# EAGLE library part LT3484-2 (library PowerProducts)
LT-Spice library generated with : ltspice.ulp from: E:/Programme/LTC/LTspiceIV/lib/sym/PowerProducts/LT3485-0*.asy at 05.10.2012 11:19:20
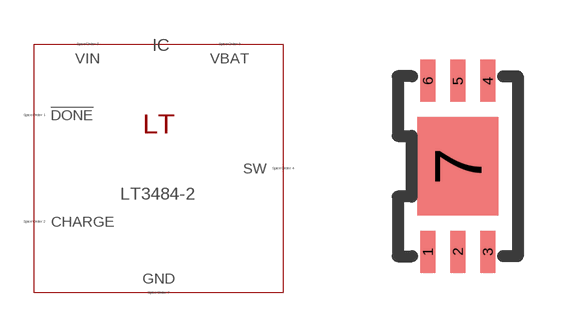
[diagram p51: symbol with the pads of DFN6(DCB); footprint DFN6(DCB)]

Designator prefix IC

## LT3484-2 (SPICEMODEL: LT1762.lib; SPICEPREFIX: X; VALUE2: LT1762)  [DFN6(DCB)]
1  !DONE  pas
2  CHARGE  pas
3  VIN  pas
4  SW  pas
5  SW  pas
6  VBAT  pas
7  GND  pas

## Footprint DFN6(DCB) (pad centres in mm)
Package generated from: DFN6(DCB).asc (!PADS-POWERPCB-V5.0-BASIC! DESIGN DATABASE ASCII FILE 1.0) with :import-pads-powerpcb-v5.ulp Version 1.0.1 at 04.10.2012 14:11:17
smd 0.375 x 1.05: 1 -0.75,-2.138; 2 0,-2.138; 3 0.75,-2.138; 4 0.75,2.138; 5 0,2.138; 6 -0.75,2.138
smd 2.025 x 2.475: 7 0,0